# Altium schematic symbol library Texas_Instruments_TL974IN.SchLib: 1 symbol
Pins are listed as number, name and electrical type; pins without a type are passive.

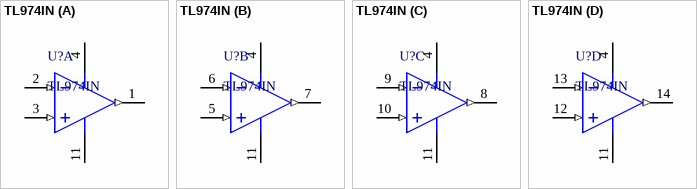
[diagram p0: symbol TL974IN]

## TL974IN
designator U?
Output Rail-To-Rail Very-Low-Noise Operational Amplifier, 2.7 to 12 V, -40 to 125 degC, 14-pin DIP (N14), Pb-Free (RoHS); Manufacturer: Texas Instruments; Slew Rate(Typ)(V/us): 5; CMRR(Min)(dB): 60; Sub Family: General Purpose Amplifier, Low Supply Voltage Amplifier (<=2.7V); IIB(Max)(pA): 750000; GBW(Typ)(MHz): 12; Iq per channel(Max)(mA): 2.8; Total Supply Voltage(Min)(+5V is 5, +/-5V is 10): 2.7; Number of Channels: 4; Rating: Catalog; Eco-Plan: Pb-Free (RoHS); PartNumber: TL974IN; ComponentLink1Description: Manufacturer URL; ComponentLink2Description: Datasheet; DatasheetVersion: SLOS467G; ComponentLink3URL: http://www.ti.com/lit/ml/mpdi002c/mpdi002c.pdf; ComponentLink1URL: http://www.ti.com/; Code_JEDEC: MS-001; ComponentLink2URL: http://www.ti.com/lit/ds/symlink/tl974.pdf; ComponentLink3Description: Package Specification; Vio (25C)(Max)(mV): 4; PackageVersion: 4040049/E, 12/2002; Total Supply Voltage(Max)(+5V is 5, +/-5V is 10): 12; Mounting Technology: Through Hole; PackageReference: N0014A; PackageDescription: 14-Pin Plastic In-Line, Body 19.305 x 6.35 mm, Pitch 2.54 mm; Offset Drift(Typ)(uV/C): 5
footprint N0014A
pins on every part: 4 VCC+ (power), 11 VCC- (power)
part A pins: 1 OUT1 (out), 2 IN1- (in), 3 IN1+ (in)
part B pins: 5 IN2+ (in), 6 IN2- (in), 7 OUT2 (out)
part C pins: 8 OUT3 (out), 9 IN3- (in), 10 IN3+ (in)
part D pins: 12 IN4+ (in), 13 IN4- (in), 14 OUT4 (out)